# Altium integrated library EMI_Coil Inductor.IntLib: 23 symbols
Pins are listed as number, name and electrical type; pins without a type are passive.

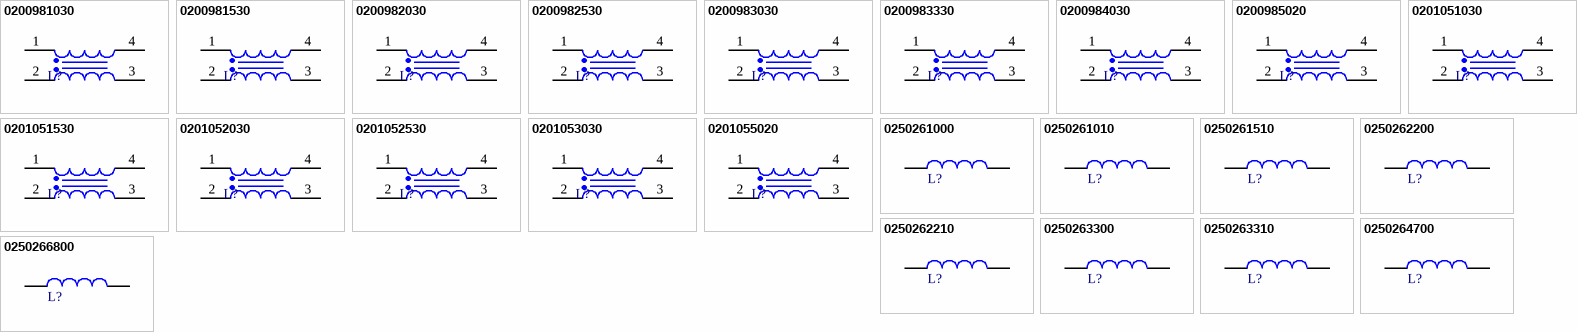
[diagram p0: symbols 0200981030 to 0250266800]

## 0200981030
designator L?, comment 10mH  (value not drawn)
Common Mode Choke,  10mH, UU9.8; Supply 1 Name: ThegioiIC; Mounting Technology: Through Hole; Rated Inductance: 10mH; Supply 1 URL: https://www.thegioiic.com/cuon-cam-10mh-uu9-8-103; Supply 2 SN: *; Supply 3 Name: *; Supply 3 SN: *; Supply 3 URL: *
footprint WE-TFC_UU9.8V (Common Mode Power Line Choke, THT, 4-leads, body 17x11.5mm)
pins: 1, 2, 3, 4

## 0200981530
designator L?, comment 153mH  (value not drawn)
Common Mode Choke,  153mH, UU9.8; Supply 1 Name: ThegioiIC; Mounting Technology: Through Hole; Rated Inductance: 153mH; Supply 1 URL: https://www.thegioiic.com/cuon-cam-15mh-uu9-8-153; Supply 2 SN: *; Supply 3 Name: *; Supply 3 SN: *; Supply 3 URL: *
footprint WE-TFC_UU9.8V (Common Mode Power Line Choke, THT, 4-leads, body 17x11.5mm)
pins: 1, 2, 3, 4

## 0200982030
designator L?, comment 20mH  (value not drawn)
Common Mode Choke,  20mH, UU9.8; Supply 1 Name: ThegioiIC; Mounting Technology: Through Hole; Rated Inductance: 20mH; Supply 1 URL: https://www.thegioiic.com/cuon-cam-20mh-uu9-8-203; Supply 2 SN: *; Supply 3 Name: *; Supply 3 SN: *; Supply 3 URL: *
footprint WE-TFC_UU9.8V (Common Mode Power Line Choke, THT, 4-leads, body 17x11.5mm)
pins: 1, 2, 3, 4

## 0200982530
designator L?, comment 25mH  (value not drawn)
Common Mode Choke,  25mH, UU9.8; Supply 1 Name: ThegioiIC; Mounting Technology: Through Hole; Rated Inductance: 25mH; Supply 1 URL: https://www.thegioiic.com/cuon-cam-25mh-uu9-8-253; Supply 2 SN: *; Supply 3 Name: *; Supply 3 SN: *; Supply 3 URL: *
footprint WE-TFC_UU9.8V (Common Mode Power Line Choke, THT, 4-leads, body 17x11.5mm)
pins: 1, 2, 3, 4

## 0200983030
designator L?, comment 30mH  (value not drawn)
Common Mode Choke,  30mH, UU9.8; Supply 1 Name: ThegioiIC; Mounting Technology: Through Hole; Rated Inductance: 30mH; Supply 1 URL: https://www.thegioiic.com/cuon-cam-30mh-uu9-8-303; Supply 2 SN: *; Supply 3 Name: *; Supply 3 SN: *; Supply 3 URL: *
footprint WE-TFC_UU9.8V (Common Mode Power Line Choke, THT, 4-leads, body 17x11.5mm)
pins: 1, 2, 3, 4

## 0200983330
designator L?, comment 33mH  (value not drawn)
Common Mode Choke,  33mH, UU9.8; Supply 1 Name: ThegioiIC; Mounting Technology: Through Hole; Rated Inductance: 33mH; Supply 1 URL: https://www.thegioiic.com/cuon-cam-33mh-uu9-8-333; Supply 2 SN: *; Supply 3 Name: *; Supply 3 SN: *; Supply 3 URL: *
footprint WE-TFC_UU9.8V (Common Mode Power Line Choke, THT, 4-leads, body 17x11.5mm)
pins: 1, 2, 3, 4

## 0200984030
designator L?, comment 40mH  (value not drawn)
Common Mode Choke,  40mH, UU9.8; Supply 1 Name: ThegioiIC; Mounting Technology: Through Hole; Rated Inductance: 40mH; Supply 1 URL: https://www.thegioiic.com/cuon-cam-40mh-uu9-8-403; Supply 2 SN: *; Supply 3 Name: *; Supply 3 SN: *; Supply 3 URL: *
footprint WE-TFC_UU9.8V (Common Mode Power Line Choke, THT, 4-leads, body 17x11.5mm)
pins: 1, 2, 3, 4

## 0200985020
designator L?, comment 5mH  (value not drawn)
Common Mode Choke,  5mH, UU9.8; Supply 1 Name: ThegioiIC; Mounting Technology: Through Hole; Rated Inductance: 5mH; Supply 1 URL: https://www.thegioiic.com/cuon-cam-5mh-uu9-8-502; Supply 2 SN: *; Supply 3 Name: *; Supply 3 SN: *; Supply 3 URL: *
footprint WE-TFC_UU9.8V (Common Mode Power Line Choke, THT, 4-leads, body 17x11.5mm)
pins: 1, 2, 3, 4

## 0201051030
designator L?, comment 10mH  (value not drawn)
Common Mode Choke,  10mH, UU10.5; Supply 1 Name: ThegioiIC; Mounting Technology: Through Hole; Rated Inductance: 10mH; Supply 1 URL: https://www.thegioiic.com/cuon-cam-10mh-uu10-5-103; Supply 2 SN: *; Supply 3 Name: *; Supply 3 SN: *; Supply 3 URL: *
footprint WE-TFC_UU10.5V
pins: 1, 2, 3, 4

## 0201051530
designator L?, comment 15mH  (value not drawn)
Common Mode Choke,  15mH, UU10.5; Supply 1 Name: ThegioiIC; Mounting Technology: Through Hole; Rated Inductance: 15mH; Supply 1 URL: https://www.thegioiic.com/cuon-cam-15mh-uu10-5-153; Supply 2 SN: *; Supply 3 Name: *; Supply 3 SN: *; Supply 3 URL: *
footprint WE-TFC_UU10.5V
pins: 1, 2, 3, 4

## 0201052030
designator L?, comment 20mH  (value not drawn)
Common Mode Choke,  20mH, UU10.5; Supply 1 Name: ThegioiIC; Mounting Technology: Through Hole; Rated Inductance: 20mH; Supply 1 URL: https://www.thegioiic.com/cuon-cam-20mh-uu10-5-203; Supply 2 SN: *; Supply 3 Name: *; Supply 3 SN: *; Supply 3 URL: *
footprint WE-TFC_UU10.5V
pins: 1, 2, 3, 4

## 0201052530
designator L?, comment 25mH  (value not drawn)
Common Mode Choke,  25mH, UU10.5; Supply 1 Name: ThegioiIC; Mounting Technology: Through Hole; Rated Inductance: 25mH; Supply 1 URL: https://www.thegioiic.com/cuon-cam-25mh-uu10-5-253; Supply 2 SN: *; Supply 3 Name: *; Supply 3 SN: *; Supply 3 URL: *
footprint WE-TFC_UU10.5V
pins: 1, 2, 3, 4

## 0201053030
designator L?, comment 30mH  (value not drawn)
Common Mode Choke,  30mH, UU10.5; Supply 1 Name: ThegioiIC; Mounting Technology: Through Hole; Rated Inductance: 30mH; Supply 1 URL: https://www.thegioiic.com/cuon-cam-30mh-uu10-5-303; Supply 2 SN: *; Supply 3 Name: *; Supply 3 SN: *; Supply 3 URL: *
footprint WE-TFC_UU10.5V
pins: 1, 2, 3, 4

## 0201055020
designator L?, comment 5mH  (value not drawn)
Common Mode Choke,  5mH, UU10.5; Supply 1 Name: ThegioiIC; Mounting Technology: Through Hole; Rated Inductance: 5mH; Supply 1 URL: https://www.thegioiic.com/cuon-cam-5mh-uu10-5-502; Supply 2 SN: *; Supply 3 Name: *; Supply 3 SN: *; Supply 3 URL: *
footprint WE-TFC_UU10.5V
pins: 1, 2, 3, 4

## 0250261000
designator L?, comment 10µH, 3A  (value not drawn)
Toroidal Storage Choke,  10µH, 3A; Supply 3 Name: ThegioiIC; Mounting Technology: Through Hole; Rated Current: 3A; Rated Inductance: 10µH; Supply 2 SN: *; Supply 3 SN: *; Supply 3 URL: https://www.thegioiic.com/cuon-cam-xuyen-lo-5026-100-10uh-3a
footprint Toroidal Storage Choke
pins: 1, 2

## 0250261010
designator L?, comment 100µH, 3A  (value not drawn)
Toroidal Storage Choke,  100µH, 3A; Manufacture  Name: Talema Group LLC; Manufacture  SN: DPO-3.0-100; Supply 1 Name: Digi-Key; Supply 1 SN: 1295-1171-ND; Supply 2 Name: ThegioiIC; Mounting Technology: Through Hole; Rated Current: 3A; Rated Inductance: 100µH; Datasheet: https://talema.com/wp-content/uploads/datasheets/DP.pdf; Supply 1 URL: https://www.digikey.com/en/products/detail/talema-group-llc/DPO-3-0-100/4172236; Supply 2 SN: *; Supply 2 URL: https://www.thegioiic.com/cuon-cam-xuyen-lo-5026-470-47uh-2a; Supply 3 Name: *; Supply 3 SN: *; Supply 3 URL: *
footprint Toroidal Storage Choke
pins: 1, 2

## 0250261510
designator L?, comment 150µH, 1A  (value not drawn)
Toroidal Storage Choke,  150µH, 1A; Manufacture  Name: Talema Group LLC; Manufacture  SN: DPO-1.0-150; Supply 1 Name: Digi-Key; Supply 1 SN: 1295-1165-ND; Supply 3 Name: ThegioiIC; Mounting Technology: Through Hole; Rated Current: 1A; Rated Inductance: 150µH; Datasheet: https://talema.com/wp-content/uploads/datasheets/DP.pdf; Supply 1 URL: https://www.digikey.com/en/products/detail/talema-group-llc/DPO-1-0-150/4172230; Supply 2 Name: *; Supply 2 SN: *; Supply 2 URL: *; Supply 3 SN: *; Supply 3 URL: https://www.thegioiic.com/cuon-cam-xuyen-lo-5026-151-150uh-1a
footprint Toroidal Storage Choke
pins: 1, 2

## 0250262200
designator L?, comment 22µH, 3A  (value not drawn)
Toroidal Storage Choke,  22µH, 3A; Manufacture  Name: Talema Group LLC; Manufacture  SN: DPO-3.0-22; Supply 1 Name: Mouser; Supply 1 SN: 580-32220C; Supply 2 Name: Digi-Key; Supply 2 SN: 1295-1173-ND; Supply 3 Name: ThegioiIC; Mounting Technology: Through Hole; Rated Current: 3A; Rated Inductance: 22µH; Datasheet: https://www.mouser.vn/datasheet/2/281/1/kmp_3200-2936232.pdf; Supply 1 URL: https://www.mouser.vn/ProductDetail/Murata-Power-Solutions/32220C?qs=94qWIstW55U3DD%2FKfB4KdQ%3D%3D; Supply 2 URL: https://www.digikey.com/en/products/detail/talema-group-llc/DPO-3-0-22/4172238; Supply 3 SN: *; Supply 3 URL: https://www.thegioiic.com/cuon-cam-xuyen-lo-5026-220-22uh-3a
footprint Toroidal Storage Choke
pins: 1, 2

## 0250262210
designator L?, comment 220µH, 3A  (value not drawn)
Toroidal Storage Choke,  220µH, 1A; Manufacture  Name: Würth Elektronik; Manufacture  SN: 7447020; Rated Inductance: 38µH; Supply 1 Name: Digi-Key; Supply 1 SN: 732-1429-ND; Supply 2 Name: ThegioiIC; Mounting Technology: Through Hole; Rated Current: 1A; Datasheet: https://www.we-online.com/katalog/datasheet/7447020.pdf; Supply 1 URL: https://www.digikey.com/en/products/detail/w%C3%BCrth-elektronik/7447020/1638834; Supply 2 SN: *; Supply 2 URL: https://www.thegioiic.com/cuon-cam-xuyen-lo-5026-221-220uh-1a; Supply 3 Name: *; Supply 3 SN: *; Supply 3 URL: *
footprint Toroidal Storage Choke
pins: 1, 2

## 0250263300
designator L?, comment 33µH, 3A  (value not drawn)
Toroidal Storage Choke,  33µH, 3A; Manufacture  Name: BI Technologies / TT Electronics; Manufacture  SN: HM77-30004LFTR; Supply 1 Name: Mouser; Supply 1 SN: 858-HM77-30004LFTR; Supply 2 Name: ThegioiIC; Mounting Technology: Through Hole; Rated Current: 3A; Rated Inductance: 33µH; Datasheet: https://www.mouser.vn/datasheet/2/414/TTRB_S_A0008507266_1-2565452.pdf; Supply 1 URL: https://www.mouser.vn/ProductDetail/BI-Technologies-TT-Electronics/HM77-30004LFTR?qs=xb9WiAtyCdaKvyhbbFJrOw%3D%3D; Supply 2 SN: *; Supply 2 URL: https://www.thegioiic.com/cuon-cam-xuyen-lo-5026-330-33uh-3a; Supply 3 Name: *; Supply 3 SN: *; Supply 3 URL: *
footprint Toroidal Storage Choke
pins: 1, 2

## 0250263310
designator L?, comment 330µH, 500mA  (value not drawn)
Toroidal Storage Choke,  330µH, 500mA; Manufacture  Name: Talema Group LLC; Manufacture  SN: DPO-0.5-330; Supply 1 Name: Digi-Key; Supply 1 SN: 1295-1162-ND; Supply 2 Name: ThegioiIC; Mounting Technology: Through Hole; Rated Current: 500mA; Rated Inductance: 330µH; Datasheet: https://talema.com/wp-content/uploads/datasheets/DP.pdf; Supply 1 URL: https://www.mouser.vn/ProductDetail/KEMET/HHBC10-0R8A0068V?qs=sGAEpiMZZMv126LJFLh8y1JvFyE9QUN2D4xkcLByYec%3D; Supply 2 SN: *; Supply 2 URL: https://www.thegioiic.com/cuon-cam-xuyen-lo-5026-331-330uh-500ma; Supply 3 Name: *; Supply 3 SN: *; Supply 3 URL: *
footprint Toroidal Storage Choke
pins: 1, 2

## 0250264700
designator L?, comment 47µH, 2A  (value not drawn)
Toroidal Storage Choke,  47µH, 2A; Supply 2 Name: ThegioiIC; Mounting Technology: Through Hole; Rated Current: 2A; Rated Inductance: 47µH; Datasheet: *; Supply 1 Name: *; Supply 1 SN: *; Supply 1 URL: *; Supply 2 SN: *; Supply 2 URL: https://www.thegioiic.com/cuon-cam-xuyen-lo-5026-470-47uh-2a; Supply 3 Name: *; Supply 3 SN: *; Supply 3 URL: *
footprint Toroidal Storage Choke
pins: 1, 2

## 0250266800
designator L?, comment 68µH, 3A  (value not drawn)
Toroidal Storage Choke,  68µH, 3A; Manufacture  Name: KEMET; Manufacture  SN: HHBC10-0R8A0068V; Supply 1 Name: Mouser; Supply 1 SN: 80-HHBC10-0R8A0068V; Supply 2 Name: ThegioiIC; Mounting Technology: Through Hole; Rated Current: 3A; Rated Inductance: 68µH; Datasheet: https://www.mouser.vn/datasheet/2/212/1/KEM_LF0050_HHBC-1487155.pdf; Supply 1 URL: https://www.mouser.vn/ProductDetail/KEMET/HHBC10-0R8A0068V?qs=sGAEpiMZZMv126LJFLh8y1JvFyE9QUN2D4xkcLByYec%3D; Supply 2 SN: *; Supply 2 URL: https://www.thegioiic.com/cuon-cam-xuyen-lo-5026-680-68uh-3a; Supply 3 Name: *; Supply 3 SN: *; Supply 3 URL: *
footprint Toroidal Storage Choke
pins: 1, 2